# EAGLE library part FPS009-3001BL (library crasbe)
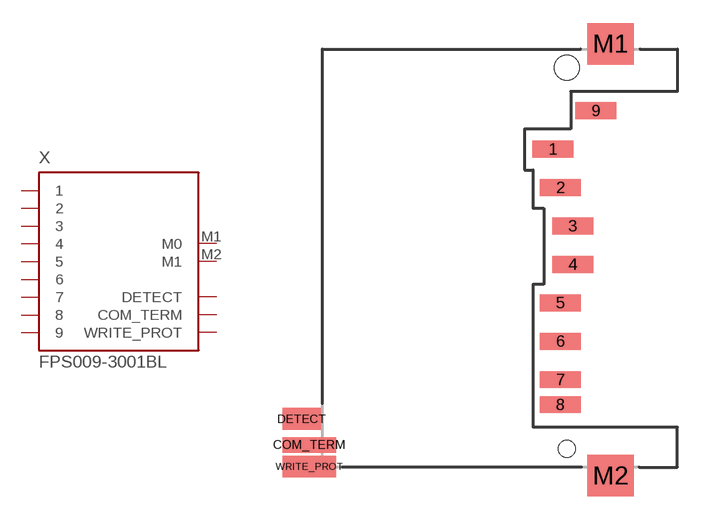
[diagram p22: symbol with the pads of FPS009-3000; footprint FPS009-3000]

Designator prefix X

## FPS009-3001BL  [FPS009-3000]
1  1  in
2  2  in
3  3  in
4  4  in
5  5  in
6  6  in
7  7  in
8  8  in
9  9  in
COM_TERM  COM_TERM  in
DETECT  DETECT  in
M1  M0  in
M2  M1  in
WRITE_PROT  WRITE_PROT  in

## Footprint FPS009-3000 (pad centres in mm)
smd 2.65 x 1.1: 1 -0.915,20.1; 2 -0.415,17.6; 3 0.385,15.1; 4 0.385,12.6; 5 -0.415,10.1; 6 -0.415,7.6; 7 -0.415,5.1; 8 -0.415,3.475; 9 1.885,22.6
smd 3.5 x 1: COM_TERM -16.75,0.85
smd 2.5 x 1.4: DETECT -17.25,2.55
smd 3 x 2.7: M1 2.85,26.95; M2 2.85,-1.15
smd 3.5 x 1.4: WRITE_PROT -16.75,-0.55
hole 1.6 at 0,25.4
hole 1.1 at 0,0.6